# Altium footprint library PowerSO-10.PcbLib: 1 footprints
Each footprint in its own frame and in the unit in brackets; x right, y up, seen from the top. Pads: shape width x height; smd on the part's side, far side on the other; paste and mask are expansions set on the pad; w line width, h text height; cw(c..) or ccw(c..) is an arc to the next point about the centre after c.
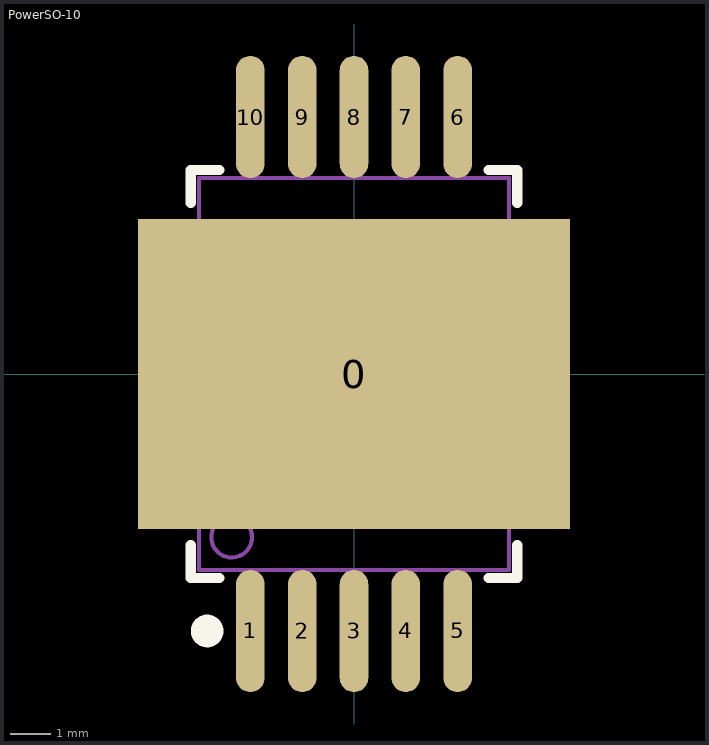
[diagram p0: the footprint, top view; thin cyan lines are the x and y axes]

## PowerSO-10 [mm]
pads (11):
  rect 10.6x7.6 smd: 0(0,0)
  oval 0.7x3 smd: 1(-2.54,-6.3) 2(-1.27,-6.3) 3(0,-6.3) 4(1.27,-6.3) 5(2.54,-6.3) 6(2.54,6.3) 7(1.27,6.3) 8(0,6.3) 9(-1.27,6.3) 10(-2.54,6.3)
Top Overlay:
  circle w0.4: c-3.6,-6.3 r0.2
  lines w0.254: -4,-4.2 -4,-5 -3.3,-5 ; -4,4.2 -4,5 -3.3,5 ; 3.3,-5 4,-5 4,-4.2 ; 3.3,5 4,5 4,4.2
Mechanical 13:
  circle w0.1: c-3,-4 r0.5
  lines w0.1: -3.8,-4.8 3.8,-4.8 3.8,4.8 -3.8,4.8 -3.8,-4.8